# EAGLE library part MOSFET-PCHANNEL_DUAL (library SparkFun-DiscreteSemi)
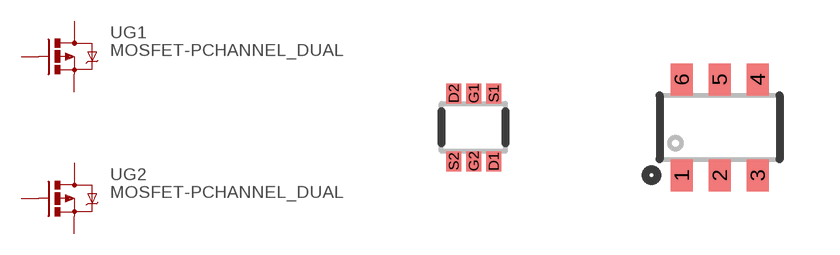
[diagram p10: symbol with the pads of SOT563; footprints SOT563, SOT26]

Designator prefix U; gates G1=MOSFET-PCHANNEL G2=MOSFET-PCHANNEL

## MOSFET-PCHANNEL_DUAL563  [SOT563]
D1  G1:D  pas
D2  G2:D  pas
G1  G1:G  pas
G2  G2:G  pas
S1  G1:S  pas
S2  G2:S  pas

## MOSFET-PCHANNEL_DUALSOT26 (PROD_ID: TRAN-12444; VALUE: 2A/20V)  [SOT26]
1  G1:G  pas
2  G2:S  pas
3  G2:G  pas
4  G2:D  pas
5  G1:S  pas
6  G1:D  pas

## Footprint SOT563 (pad centres in mm)
SOT563 for DMG1023UV-7
smd 0.375 x 0.5: D1 0.5,-0.85; D2 -0.5,0.85; G1 0,0.85; G2 0,-0.85; S1 0.5,0.85; S2 -0.5,-0.85

## Footprint SOT26 (pad centres in mm)
Footprint for SOT-26 part DMP2240UDM
smd 0.55 x 0.8: 1 -0.95,-1.2; 2 0,-1.2; 3 0.95,-1.2; 4 0.95,1.2; 5 0,1.2; 6 -0.95,1.2